# Altium footprint library Inductor.PcbLib: 33 footprints (part 1 of 3)
Each footprint in its own frame and in the unit in brackets; x right, y up, seen from the top. Pads: shape width x height; smd on the part's side, far side on the other; paste and mask are expansions set on the pad; w line width, h text height; cw(c..) or ccw(c..) is an arc to the next point about the centre after c.
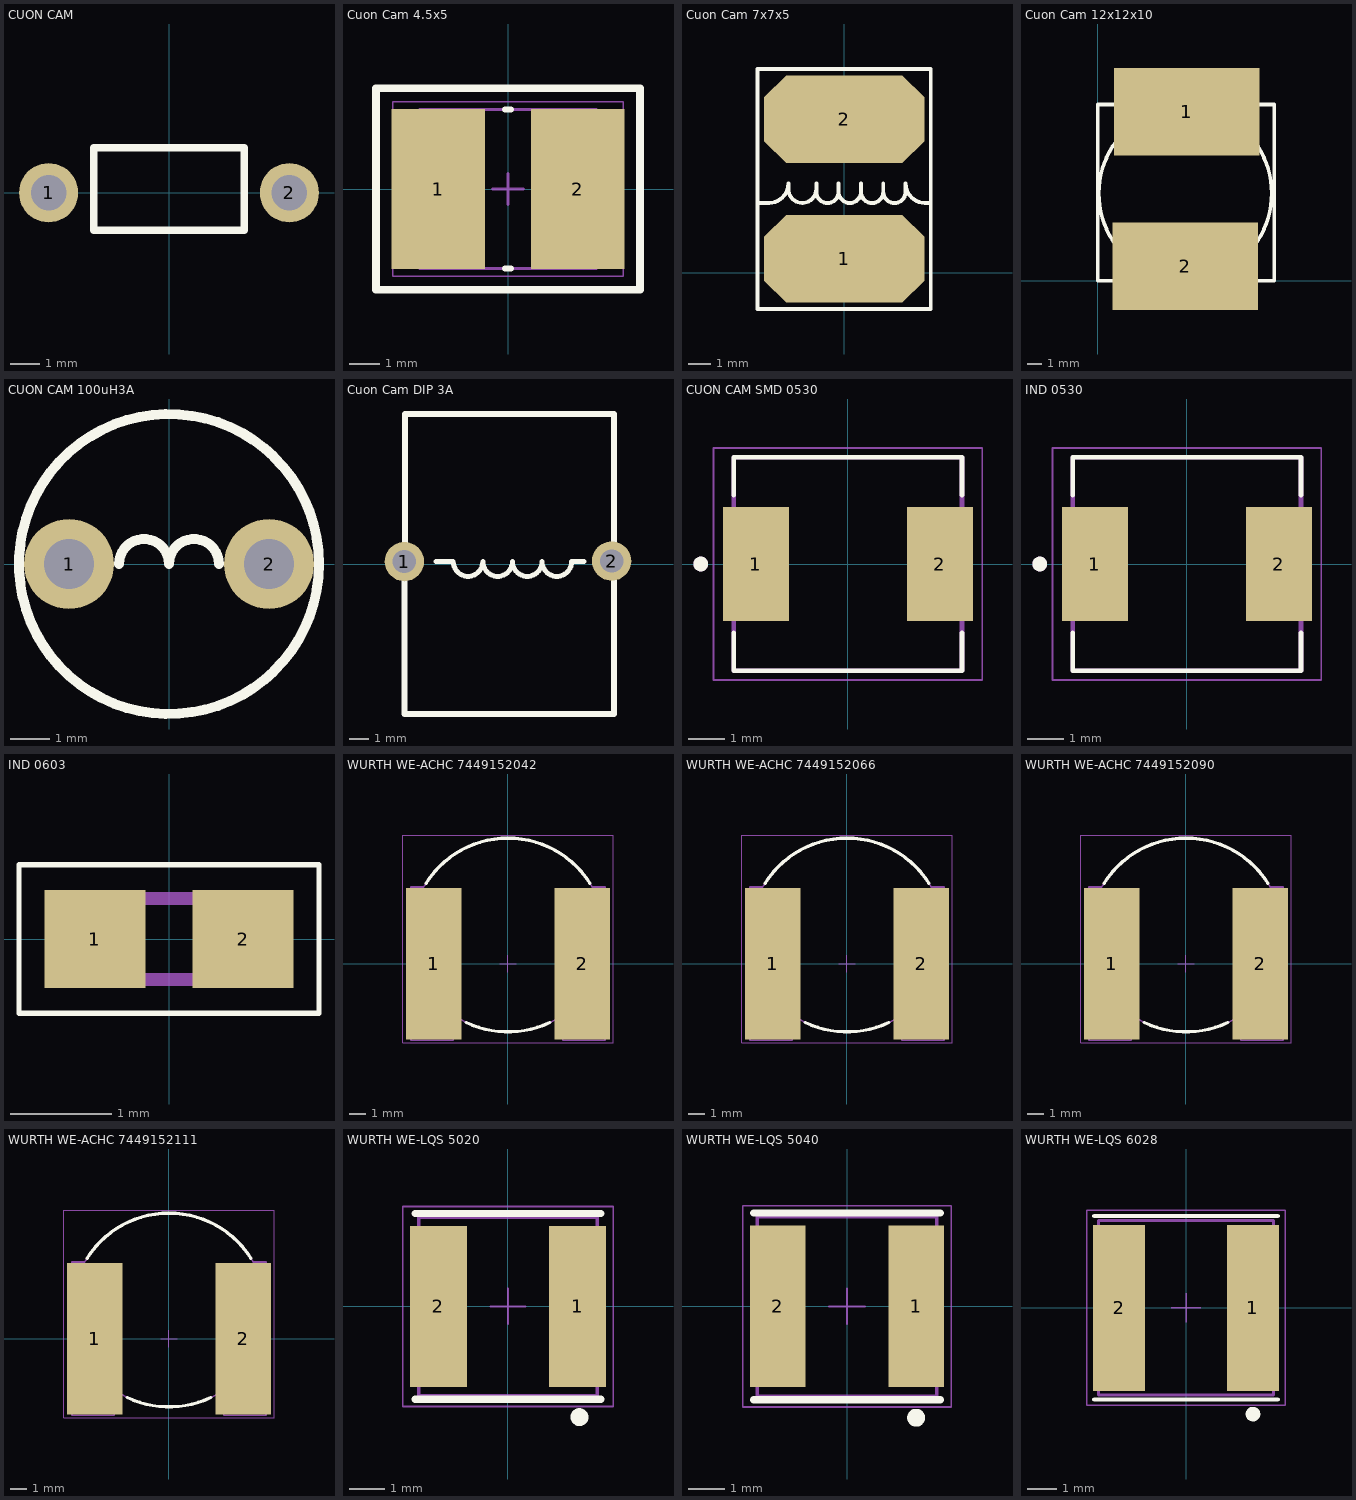
[diagram p0: the footprints below, top view; thin cyan lines are the x and y axes]

## CUON CAM [mm] "Dang cam giong tro"
pads (2):
  round 2 hole 1.2: 1(-4.064,0) 2(4.064,0)
Top Overlay:
  lines w0.254: -2.54,-1.27 2.54,-1.27 2.54,1.524 -2.54,1.524 -2.54,-1.27

## Cuon Cam 4.5x5 [mm] "Cuon Cam 4.5x5"
height 2.29
pads (2):
  rect 3.05x5.25 smd: 1(-2.286,0) 2(2.286,0)
Top Overlay:
  lines w0.2: -0.1,-2.6 0.1,-2.6 ; -0.1,2.6 0.1,2.6
  lines w0.254: -4.318,-3.302 4.318,-3.302 4.318,3.302 -4.318,3.302 -4.318,-3.302
Mechanical 13:
  lines w0.1: -2.9,-2.6 -2.9,2.6 2.9,2.6 2.9,-2.6 -2.9,-2.6
Mechanical 15:
  lines w0.05: -3.775,-2.85 -3.775,2.85 3.775,2.85 3.775,-2.85 -3.775,-2.85
  lines w0.1: -0.5,0 0.5,0 ; 0,-0.5 0,0.5
3D body: height 2.29, standoff 0, extent -2.9,-2.6 2.9,2.6

## Cuon Cam 7x7x5 [mm] "Cuon Cam 7x7x5"
pads (2):
  oct 7.3x4 smd: 1(0,0.635) 2(0,6.985)
Top Overlay:
  lines w0.178: -3.937,3.175 -3.429,3.175 ccw(c-3.429,4.064) -2.54,4.064 -2.54,3.81 ccw(c-1.905,3.81) -1.905,3.175 ccw(c-1.905,3.81) -1.27,3.81 -1.27,4.064 -1.27,3.683 ccw(c-0.762,3.683) -0.762,3.175 ccw(c-0.762,3.683) -0.254,3.683 ; 3.937,3.175 3.683,3.175 cw(c3.683,4.064) 2.794,4.064 2.794,3.683 cw(c2.286,3.683) 2.286,3.175 cw(c2.286,3.683) 1.778,3.683 ; -0.254,3.683 ccw(c0.254,3.683) 0.254,3.175 ccw(c0.254,3.683) 0.762,3.683 ; -0.254,3.683 -0.254,4.064 -0.254,3.683 ; 0.762,3.683 ccw(c1.27,3.683) 1.27,3.175 ccw(c1.27,3.683) 1.778,3.683 ; 0.762,3.683 0.762,4.064 0.762,3.683 ; 1.778,3.683 1.778,4.064 1.778,3.683 ; -3.937,-1.651 3.937,-1.651 3.937,9.271 -3.937,9.271 -3.937,-1.651
3D body "cuon cam 75.step": height 5.02, standoff 0.01, extent -3.5,0.069 3.5,7.805

## Cuon Cam 12x12x10 [mm] "Cuon Cam 12x12x10"
pads (2):
  rect 10x6 smd: 1(6.1,11.6) 2(6,1)
Top Overlay:
  circle w0.254: c6,6 r5.941
  lines w0.254: 0,0 12.1,0 12.1,9.2 12.1,12.1 0,12.1 0,0
3D body "CUON CAM CDRH127 3A SMD.step": height 7.51, standoff 0.06, extent 0.096,-0.202 12.096,12.14

## CUON CAM 100uH3A [mil] "100uH3A"
pads (2):
  round 90 hole 50: 1(-100,0) 2(100,0)
Top Overlay:
  circle w10: c0,0 r150
  lines w10: -50,0 cw(c-25,0) 0,0 cw(c25,0) 50,0
3D body "cuon cam cam 1A.step": height 394.18, standoff -196.37, extent -171.27,-175.26 171.25,167.26

## Cuon Cam DIP 3A [mil]
pads (2):
  round 80 hole 47.24: 1(128,6) 2(548,7)
Top Overlay:
  lines w10: 192,6 227,6 ccw(c257,6) 287,6 ccw(c317,6) 347,6 ccw(c377,6) 407,6 ccw(c437,6) 467,6 492,6
  lines w12: 128,-303 553,-303 553,305 129,305 129,18 128,17 128,-303

## CUON CAM SMD 0530 [mm] "CUON CAM SMD 0530"
pads (2):
  rect 1.8x3.1 smd: 1(-2.5,0) 2(2.5,0)
Top Overlay:
  circle w0.2: c-4,0 r0.1
  lines w0.127: -3.1,-1.863 -3.1,-2.9 3.1,-2.9 3.1,-1.863 ; -3.1,1.863 -3.1,2.9 3.1,2.9 3.1,1.863
Mechanical 13:
  circle w0.2: c-4,0 r0.1
  lines w0.127: -3.1,-2.9 3.1,-2.9 3.1,2.9 -3.1,2.9 -3.1,-2.9
Mechanical 15:
  lines w0.05: -3.65,-3.15 -3.65,3.15 3.65,3.15 3.65,-3.15 -3.65,-3.15
3D body "FDV0530-H-1R5M=P3--3DModel-STEP-46669.STEP": height 3, standoff 0, extent -3.1,-2.879 3.1,2.921

## IND 0530 [mm] "IND SMD 0530"
pads (2):
  rect 1.8x3.1 smd: 1(-2.5,0) 2(2.5,0)
Top Overlay:
  circle w0.2: c-4,0 r0.1
  lines w0.127: -3.1,-1.863 -3.1,-2.9 3.1,-2.9 3.1,-1.863 ; -3.1,1.863 -3.1,2.9 3.1,2.9 3.1,1.863
Mechanical 13:
  circle w0.2: c-4,0 r0.1
  lines w0.127: -3.1,-2.9 3.1,-2.9 3.1,2.9 -3.1,2.9 -3.1,-2.9
Mechanical 15:
  lines w0.05: -3.65,-3.15 -3.65,3.15 3.65,3.15 3.65,-3.15 -3.65,-3.15
3D body "FDV0530-H-1R5M=P3--3DModel-STEP-46669.STEP": height 3, standoff 0, extent -3.1,-2.879 3.1,2.921

## IND 0603 [mm] "INDUCTOR 0603"
pads (2):
  rect 1x0.97 smd: 1(-0.735,0) 2(0.735,0)
Top Overlay:
  lines w0.05: -1.485,-0.735 1.485,-0.735 1.485,0.735 -1.485,0.735 -1.485,-0.735
Mechanical 13:
  lines w0.127: -0.8,-0.4 -0.8,0.4 0.8,0.4 0.8,-0.4 -0.8,-0.4
3D body "step_temp.STEP": height 0.95, standoff 0, extent -0.8,-0.4 0.8,0.4

## WURTH WE-ACHC 7449152042 [mm] "Air Coil High Current Inductor, size 1212"
height 7.6
pads (2):
  rect 3.3x9 smd: 1(-4.4,0) 2(4.4,0)
Top Overlay:
  lines w0.2: -4.853,4.784 cw(c0,1.7) 4.853,4.784 ; -2.474,-3.49 ccw(c0,1.7) 2.47,-3.492
Top 3D Body:
  circle w0.1: c0,1.7 r5.75
  lines w0.1: -5,4.55 -5.75,4.55 -5.75,-4.55 -3.25,-4.55 -3.25,-3.05 ; 3.25,-3.05 3.25,-4.55 5.75,-4.55 5.75,4.55 5,4.55
Top Component Outline:
  circle w0.1: c0,1.7 r5.75
  lines w0.1: -5,4.55 -5.75,4.55 -5.75,-4.55 -3.25,-4.55 -3.25,-3.05 ; 3.25,-3.05 3.25,-4.55 5.75,-4.55 5.75,4.55 5,4.55
Top Courtyard:
  lines w0.05: -0.5,0 0.5,0 ; 0,-0.5 0,0.5 ; -6.25,-4.7 6.25,-4.7 6.25,7.63 -6.25,7.63 -6.25,-4.7
3D body "7449152042.stp": height 7.68, standoff 0, extent -5.75,-4.57 5.75,7.43

## WURTH WE-ACHC 7449152066 [mm] "Air Coil High Current Inductor, size 1212"
height 8.8
pads (2):
  rect 3.3x9 smd: 1(-4.4,0) 2(4.4,0)
Top Overlay:
  lines w0.2: -4.853,4.784 cw(c0,1.7) 4.853,4.784 ; -2.474,-3.49 ccw(c0,1.7) 2.47,-3.492
Top 3D Body:
  circle w0.1: c0,1.7 r5.75
  lines w0.1: -5,4.55 -5.75,4.55 -5.75,-4.55 -3.25,-4.55 -3.25,-3.05 ; 3.25,-3.05 3.25,-4.55 5.75,-4.55 5.75,4.55 5,4.55
Top Component Outline:
  circle w0.1: c0,1.7 r5.75
  lines w0.1: -5,4.55 -5.75,4.55 -5.75,-4.55 -3.25,-4.55 -3.25,-3.05 ; 3.25,-3.05 3.25,-4.55 5.75,-4.55 5.75,4.55 5,4.55
Top Courtyard:
  lines w0.05: -0.5,0 0.5,0 ; 0,-0.5 0,0.5 ; -6.25,-4.7 6.25,-4.7 6.25,7.63 -6.25,7.63 -6.25,-4.7
3D body "7449152066.stp": height 8.87, standoff 0.02, extent -5.75,-4.57 5.75,7.43

## WURTH WE-ACHC 7449152090 [mm] "Air Coil High Current Inductor, size 1212"
height 10.4
pads (2):
  rect 3.3x9 smd: 1(-4.4,0) 2(4.4,0)
Top Overlay:
  lines w0.2: -4.853,4.784 cw(c0,1.7) 4.853,4.784 ; -2.474,-3.49 ccw(c0,1.7) 2.47,-3.492
Top 3D Body:
  circle w0.1: c0,1.7 r5.75
  lines w0.1: -5,4.55 -5.75,4.55 -5.75,-4.55 -3.25,-4.55 -3.25,-3.05 ; 3.25,-3.05 3.25,-4.55 5.75,-4.55 5.75,4.55 5,4.55
Top Component Outline:
  circle w0.1: c0,1.7 r5.75
  lines w0.1: -5,4.55 -5.75,4.55 -5.75,-4.55 -3.25,-4.55 -3.25,-3.05 ; 3.25,-3.05 3.25,-4.55 5.75,-4.55 5.75,4.55 5,4.55
Top Courtyard:
  lines w0.05: -0.5,0 0.5,0 ; 0,-0.5 0,0.5 ; -6.25,-4.7 6.25,-4.7 6.25,7.63 -6.25,7.63 -6.25,-4.7
3D body "7449152090.stp": height 10.51, standoff 0.05, extent -5.75,-4.57 5.75,7.43

## WURTH WE-ACHC 7449152111 [mm] "Air Coil High Current Inductor, size 1212"
height 11.3
pads (2):
  rect 3.3x9 smd: 1(-4.4,0) 2(4.4,0)
Top Overlay:
  lines w0.2: -4.853,4.784 cw(c0,1.7) 4.853,4.784 ; -2.474,-3.49 ccw(c0,1.7) 2.47,-3.492
Top 3D Body:
  circle w0.1: c0,1.7 r5.75
  lines w0.1: -5,4.55 -5.75,4.55 -5.75,-4.55 -3.25,-4.55 -3.25,-3.05 ; 3.25,-3.05 3.25,-4.55 5.75,-4.55 5.75,4.55 5,4.55
Top Component Outline:
  circle w0.1: c0,1.7 r5.75
  lines w0.1: -5,4.55 -5.75,4.55 -5.75,-4.55 -3.25,-4.55 -3.25,-3.05 ; 3.25,-3.05 3.25,-4.55 5.75,-4.55 5.75,4.55 5,4.55
Top Courtyard:
  lines w0.05: -0.5,0 0.5,0 ; 0,-0.5 0,0.5 ; -6.25,-4.7 -6.25,7.63 6.25,7.63 6.25,-4.7 -6.25,-4.7
3D body "7449152111.stp": height 11.36, standoff 0.01, extent -5.75,-4.57 5.75,7.43

## WURTH WE-LQS 5020 [mm] "SMD Power Inductor, 2-Leads, body 5x5mm"
height 2
pads (2):
  rect 1.6x4.5 smd: 1(1.95,0) 2(-1.95,0)
Top Overlay:
  circle w0.25: c2,-3.1 r0.125
  lines w0.2: -2.6,-2.6 2.6,-2.6 ; -2.6,2.6 2.6,2.6
Top 3D Body:
  circle w0.1: c1.7,-1.7 r0.3
  lines w0.1: -2.5,-2.5 -2.5,2.5 2.5,2.5 2.5,-2.5 -2.5,-2.5
Top Component Outline:
  circle w0.1: c1.7,-1.7 r0.3
  lines w0.1: -2.5,-2.5 -2.5,2.5 2.5,2.5 2.5,-2.5 -2.5,-2.5
Top Courtyard:
  lines w0.05: -0.5,0 0.5,0 ; 0,-0.5 0,0.5 ; -2.95,-2.8 2.95,-2.8 2.95,2.8 -2.95,2.8 -2.95,-2.8
3D body "IndLQS_5020S.stp": height 2, standoff 0, extent -2.5,-2.5 2.5,2.5

## WURTH WE-LQS 5040 [mm] "SMD Power Inductor, 2-Leads, body 5x5mm"
height 4
pads (2):
  rect 1.55x4.5 smd: 1(1.925,0) 2(-1.925,0)
Top Overlay:
  circle w0.25: c1.925,-3.1 r0.125
  lines w0.2: -2.6,-2.6 2.6,-2.6 ; -2.6,2.6 2.6,2.6
Top Component Outline:
  circle w0.1: c1.7,-1.7 r0.3
  circle w0.1: c1.7,-1.7 r0.3
  lines w0.1: -2.5,-2.5 -2.5,2.5 ; -2.5,-2.5 2.5,-2.5 ; -2.5,-2.5 -2.5,2.5 ; -2.5,-2.5 2.5,-2.5 ; -2.5,2.5 2.5,2.5 ; -2.5,2.5 2.5,2.5 ; 2.5,-2.5 2.5,2.5 ; 2.5,-2.5 2.5,2.5
Top Courtyard:
  lines w0.05: -2.9,-2.8 -2.9,2.8 2.9,2.8 2.9,-2.8 -2.9,-2.8
Top Assembly:
  lines w0.05: -0.5,0 0.5,0 ; 0,-0.5 0,0.5
3D body "LQS_5040.stp": height 4.03, standoff 0.03, extent -2.5,-2.5 2.5,2.5

## WURTH WE-LQS 6028 [mm] "SMD Power Inductor, 2-Leads, body 6x6mm"
height 2.8
pads (2):
  rect 1.8x5.7 smd: 1(2.3,0) 2(-2.3,0)
Top Overlay:
  circle w0.25: c2.3,-3.65 r0.125
  lines w0.15: -3.15,-3.15 3.15,-3.15 ; -3.15,3.15 3.15,3.15
Top Component Outline:
  circle w0.1: c2.2,-2.2 r0.3
  circle w0.1: c2.2,-2.2 r0.3
  lines w0.1: -3,-3 -3,3 ; -3,-3 3,-3 ; -3,-3 -3,3 ; -3,-3 3,-3 ; -3,3 3,3 ; -3,3 3,3 ; 3,-3 3,3 ; 3,-3 3,3
Top Courtyard:
  lines w0.05: -3.4,-3.35 -3.4,3.35 3.4,3.35 3.4,-3.35 -3.4,-3.35
Top Assembly:
  lines w0.05: -0.5,0 0.5,0 ; 0,-0.5 0,0.5
3D body "LQS_6028.stp": height 2.83, standoff 0.02, extent -3,-3 3,3